# Altium footprint library STM32H743IIT6.PcbLib: 5 footprints
Each footprint in its own frame and in the unit in brackets; x right, y up, seen from the top. Pads: shape width x height; smd on the part's side, far side on the other; paste and mask are expansions set on the pad; w line width, h text height; cw(c..) or ccw(c..) is an arc to the next point about the centre after c.
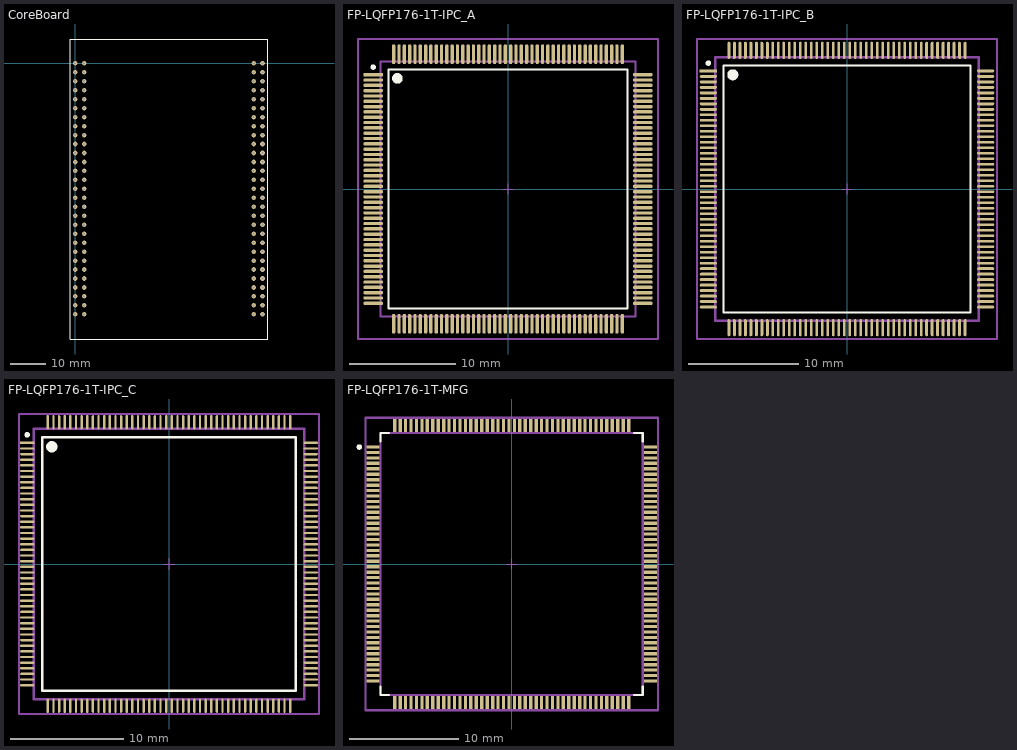
[diagram p0: the footprints below, top view; thin cyan lines are the x and y axes]

## CoreBoard [mm]
via 2.54,-71.12 diameter 1.3 hole 0.6
via 2.54,-71.12 diameter 1.3 hole 0.6
via 2.54,-71.12 diameter 1.3 hole 0.6
via 2.54,-71.12 diameter 1.3 hole 0.6
via 2.54,0 diameter 1.3 hole 0.6
via 2.54,-2.54 diameter 1.3 hole 0.6
via 2.54,0 diameter 1.3 hole 0.6
via 2.54,-2.54 diameter 1.3 hole 0.6
via 2.54,-2.54 diameter 1.3 hole 0.6
via 2.54,-2.54 diameter 1.3 hole 0.6
via 2.54,0 diameter 1.3 hole 0.6
via 2.54,-7.62 diameter 1.3 hole 0.6
via 2.54,-7.62 diameter 1.3 hole 0.6
via 2.54,-7.62 diameter 1.3 hole 0.6
via 2.54,-7.62 diameter 1.3 hole 0.6
via 2.54,-5.08 diameter 1.3 hole 0.6
via 2.54,-5.08 diameter 1.3 hole 0.6
via 2.54,0 diameter 1.3 hole 0.6
via 2.54,-60.96 diameter 1.3 hole 0.6
via 2.54,-5.08 diameter 1.3 hole 0.6
via 2.54,-5.08 diameter 1.3 hole 0.6
via 2.54,-12.7 diameter 1.3 hole 0.6
via 2.54,-12.7 diameter 1.3 hole 0.6
via 2.54,-12.7 diameter 1.3 hole 0.6
via 2.54,-12.7 diameter 1.3 hole 0.6
via 2.54,-10.16 diameter 1.3 hole 0.6
via 2.54,-10.16 diameter 1.3 hole 0.6
via 2.54,-10.16 diameter 1.3 hole 0.6
via 2.54,-10.16 diameter 1.3 hole 0.6
via 2.54,-53.34 diameter 1.3 hole 0.6
via 2.54,-53.34 diameter 1.3 hole 0.6
via 2.54,-53.34 diameter 1.3 hole 0.6
via 2.54,-53.34 diameter 1.3 hole 0.6
via 2.54,-58.42 diameter 1.3 hole 0.6
via 2.54,-55.88 diameter 1.3 hole 0.6
via 2.54,-55.88 diameter 1.3 hole 0.6
via 2.54,-55.88 diameter 1.3 hole 0.6
via 2.54,-55.88 diameter 1.3 hole 0.6
via 2.54,-43.18 diameter 1.3 hole 0.6
via 2.54,-48.26 diameter 1.3 hole 0.6
via 2.54,-45.72 diameter 1.3 hole 0.6
via 2.54,-45.72 diameter 1.3 hole 0.6
via 2.54,-48.26 diameter 1.3 hole 0.6
via 2.54,-48.26 diameter 1.3 hole 0.6
via 2.54,-48.26 diameter 1.3 hole 0.6
via 2.54,-45.72 diameter 1.3 hole 0.6
via 2.54,-45.72 diameter 1.3 hole 0.6
via 2.54,-50.8 diameter 1.3 hole 0.6
via 2.54,-50.8 diameter 1.3 hole 0.6
via 2.54,-50.8 diameter 1.3 hole 0.6
via 2.54,-50.8 diameter 1.3 hole 0.6
via 2.54,-43.18 diameter 1.3 hole 0.6
via 2.54,-43.18 diameter 1.3 hole 0.6
via 2.54,-43.18 diameter 1.3 hole 0.6
via 2.54,-40.64 diameter 1.3 hole 0.6
via 2.54,-40.64 diameter 1.3 hole 0.6
via 2.54,-40.64 diameter 1.3 hole 0.6
via 2.54,-40.64 diameter 1.3 hole 0.6
via 2.54,-27.94 diameter 1.3 hole 0.6
via 2.54,-22.86 diameter 1.3 hole 0.6
via 2.54,-22.86 diameter 1.3 hole 0.6
via 2.54,-22.86 diameter 1.3 hole 0.6
via 2.54,-22.86 diameter 1.3 hole 0.6
via 2.54,-25.4 diameter 1.3 hole 0.6
via 2.54,-27.94 diameter 1.3 hole 0.6
via 2.54,-27.94 diameter 1.3 hole 0.6
via 2.54,-25.4 diameter 1.3 hole 0.6
via 2.54,-27.94 diameter 1.3 hole 0.6
via 2.54,-25.4 diameter 1.3 hole 0.6
via 2.54,-25.4 diameter 1.3 hole 0.6
via 2.54,-17.78 diameter 1.3 hole 0.6
via 2.54,-15.24 diameter 1.3 hole 0.6
via 2.54,-15.24 diameter 1.3 hole 0.6
via 2.54,-15.24 diameter 1.3 hole 0.6
via 0,-15.24 diameter 1.3 hole 0.6
via 0,-15.24 diameter 1.3 hole 0.6
via 0,-15.24 diameter 1.3 hole 0.6
via 0,-15.24 diameter 1.3 hole 0.6
via 2.54,-17.78 diameter 1.3 hole 0.6
via 2.54,-17.78 diameter 1.3 hole 0.6
via 2.54,-17.78 diameter 1.3 hole 0.6
via 2.54,-15.24 diameter 1.3 hole 0.6
via 2.54,-20.32 diameter 1.3 hole 0.6
via 0,-20.32 diameter 1.3 hole 0.6
via 2.54,-20.32 diameter 1.3 hole 0.6
via 0,-20.32 diameter 1.3 hole 0.6
via 0,-20.32 diameter 1.3 hole 0.6
via 0,-20.32 diameter 1.3 hole 0.6
via 2.54,-20.32 diameter 1.3 hole 0.6
via 2.54,-20.32 diameter 1.3 hole 0.6
via 2.54,-30.48 diameter 1.3 hole 0.6
via 2.54,-33.02 diameter 1.3 hole 0.6
via 2.54,-33.02 diameter 1.3 hole 0.6
via 2.54,-33.02 diameter 1.3 hole 0.6
via 2.54,-33.02 diameter 1.3 hole 0.6
via 2.54,-30.48 diameter 1.3 hole 0.6
via 2.54,-30.48 diameter 1.3 hole 0.6
via 2.54,-30.48 diameter 1.3 hole 0.6
via 2.54,-38.1 diameter 1.3 hole 0.6
via 2.54,-38.1 diameter 1.3 hole 0.6
via 2.54,-35.56 diameter 1.3 hole 0.6
via 2.54,-35.56 diameter 1.3 hole 0.6
via 2.54,-35.56 diameter 1.3 hole 0.6
via 0,-38.1 diameter 1.3 hole 0.6
via 0,-38.1 diameter 1.3 hole 0.6
via 0,-38.1 diameter 1.3 hole 0.6
via 2.54,-38.1 diameter 1.3 hole 0.6
via 2.54,-38.1 diameter 1.3 hole 0.6
via 2.54,-35.56 diameter 1.3 hole 0.6
via 0,-58.42 diameter 1.3 hole 0.6
via 0,-60.96 diameter 1.3 hole 0.6
via 0,-60.96 diameter 1.3 hole 0.6
via 0,-58.42 diameter 1.3 hole 0.6
via 0,-58.42 diameter 1.3 hole 0.6
via 0,-60.96 diameter 1.3 hole 0.6
via 0,-60.96 diameter 1.3 hole 0.6
via 0,-58.42 diameter 1.3 hole 0.6
via 0,-43.18 diameter 1.3 hole 0.6
via 0,-40.64 diameter 1.3 hole 0.6
via 0,-40.64 diameter 1.3 hole 0.6
via 0,-43.18 diameter 1.3 hole 0.6
via 0,-40.64 diameter 1.3 hole 0.6
via 0,-43.18 diameter 1.3 hole 0.6
via 0,-43.18 diameter 1.3 hole 0.6
via 0,-40.64 diameter 1.3 hole 0.6
via 0,0 diameter 1.3 hole 0.6
via 0,-2.54 diameter 1.3 hole 0.6
via 0,-2.54 diameter 1.3 hole 0.6
via 0,-2.54 diameter 1.3 hole 0.6
via 0,0 diameter 1.3 hole 0.6
via 0,-2.54 diameter 1.3 hole 0.6
via 0,0 diameter 1.3 hole 0.6
via 0,0 diameter 1.3 hole 0.6
via 0,-17.78 diameter 1.3 hole 0.6
via 0,-17.78 diameter 1.3 hole 0.6
via 0,-17.78 diameter 1.3 hole 0.6
via 0,-17.78 diameter 1.3 hole 0.6
via 0,-50.8 diameter 1.3 hole 0.6
via 0,-50.8 diameter 1.3 hole 0.6
via 0,-50.8 diameter 1.3 hole 0.6
via 0,-50.8 diameter 1.3 hole 0.6
via 0,-22.86 diameter 1.3 hole 0.6
via 0,-35.56 diameter 1.3 hole 0.6
via 0,-38.1 diameter 1.3 hole 0.6
via 0,-35.56 diameter 1.3 hole 0.6
via 0,-22.86 diameter 1.3 hole 0.6
via 0,-22.86 diameter 1.3 hole 0.6
via 0,-33.02 diameter 1.3 hole 0.6
via 0,-33.02 diameter 1.3 hole 0.6
via 0,-35.56 diameter 1.3 hole 0.6
via 0,-33.02 diameter 1.3 hole 0.6
via 0,-33.02 diameter 1.3 hole 0.6
via 0,-35.56 diameter 1.3 hole 0.6
via 0,-22.86 diameter 1.3 hole 0.6
via 0,-12.7 diameter 1.3 hole 0.6
via 0,-10.16 diameter 1.3 hole 0.6
via 0,-10.16 diameter 1.3 hole 0.6
via 0,-10.16 diameter 1.3 hole 0.6
via 0,-10.16 diameter 1.3 hole 0.6
via 0,-12.7 diameter 1.3 hole 0.6
via 0,-12.7 diameter 1.3 hole 0.6
via 0,-12.7 diameter 1.3 hole 0.6
via 0,-27.94 diameter 1.3 hole 0.6
via 0,-25.4 diameter 1.3 hole 0.6
via 0,-25.4 diameter 1.3 hole 0.6
via 0,-27.94 diameter 1.3 hole 0.6
via 0,-25.4 diameter 1.3 hole 0.6
via 0,-27.94 diameter 1.3 hole 0.6
via 0,-27.94 diameter 1.3 hole 0.6
via 0,-25.4 diameter 1.3 hole 0.6
via 0,-53.34 diameter 1.3 hole 0.6
via 0,-53.34 diameter 1.3 hole 0.6
via 0,-53.34 diameter 1.3 hole 0.6
via 0,-53.34 diameter 1.3 hole 0.6
via 0,-55.88 diameter 1.3 hole 0.6
via 0,-55.88 diameter 1.3 hole 0.6
via 0,-55.88 diameter 1.3 hole 0.6
via 0,-55.88 diameter 1.3 hole 0.6
via 0,-66.04 diameter 1.3 hole 0.6
via 0,-63.5 diameter 1.3 hole 0.6
via 0,-66.04 diameter 1.3 hole 0.6
via 0,-63.5 diameter 1.3 hole 0.6
via 0,-63.5 diameter 1.3 hole 0.6
via 0,-66.04 diameter 1.3 hole 0.6
via 0,-66.04 diameter 1.3 hole 0.6
via 0,-63.5 diameter 1.3 hole 0.6
via 0,-45.72 diameter 1.3 hole 0.6
via 0,-45.72 diameter 1.3 hole 0.6
via 0,-48.26 diameter 1.3 hole 0.6
via 0,-48.26 diameter 1.3 hole 0.6
via 0,-48.26 diameter 1.3 hole 0.6
via 0,-45.72 diameter 1.3 hole 0.6
via 0,-45.72 diameter 1.3 hole 0.6
via 0,-48.26 diameter 1.3 hole 0.6
via 0,-5.08 diameter 1.3 hole 0.6
via 0,-5.08 diameter 1.3 hole 0.6
via 0,-5.08 diameter 1.3 hole 0.6
via 0,-5.08 diameter 1.3 hole 0.6
via 0,-7.62 diameter 1.3 hole 0.6
via 0,-7.62 diameter 1.3 hole 0.6
via 0,-7.62 diameter 1.3 hole 0.6
via 0,-7.62 diameter 1.3 hole 0.6
via 0,-30.48 diameter 1.3 hole 0.6
via 0,-30.48 diameter 1.3 hole 0.6
via 0,-30.48 diameter 1.3 hole 0.6
via 0,-30.48 diameter 1.3 hole 0.6
via 0,-68.58 diameter 1.3 hole 0.6
via 0,-71.12 diameter 1.3 hole 0.6
via 0,-71.12 diameter 1.3 hole 0.6
via 0,-68.58 diameter 1.3 hole 0.6
via 0,-68.58 diameter 1.3 hole 0.6
via 0,-68.58 diameter 1.3 hole 0.6
via 0,-71.12 diameter 1.3 hole 0.6
via 0,-71.12 diameter 1.3 hole 0.6
via 2.54,-63.5 diameter 1.3 hole 0.6
via 2.54,-58.42 diameter 1.3 hole 0.6
via 2.54,-63.5 diameter 1.3 hole 0.6
via 2.54,-58.42 diameter 1.3 hole 0.6
via 2.54,-63.5 diameter 1.3 hole 0.6
via 2.54,-60.96 diameter 1.3 hole 0.6
via 2.54,-60.96 diameter 1.3 hole 0.6
via 2.54,-58.42 diameter 1.3 hole 0.6
via 2.54,-63.5 diameter 1.3 hole 0.6
via 2.54,-60.96 diameter 1.3 hole 0.6
via 2.54,-66.04 diameter 1.3 hole 0.6
via 2.54,-66.04 diameter 1.3 hole 0.6
via 2.54,-66.04 diameter 1.3 hole 0.6
via 2.54,-66.04 diameter 1.3 hole 0.6
via 2.54,-68.58 diameter 1.3 hole 0.6
via 2.54,-68.58 diameter 1.3 hole 0.6
via 2.54,-68.58 diameter 1.3 hole 0.6
via 2.54,-68.58 diameter 1.3 hole 0.6
via 50.56,-5.08 diameter 1.3 hole 0.6
via 50.56,-5.08 diameter 1.3 hole 0.6
via 53.1,0 diameter 1.3 hole 0.6
via 53.1,-2.54 diameter 1.3 hole 0.6
via 50.56,0 diameter 1.3 hole 0.6
via 50.56,-2.54 diameter 1.3 hole 0.6
via 50.56,0 diameter 1.3 hole 0.6
via 53.1,0 diameter 1.3 hole 0.6
via 50.56,-2.54 diameter 1.3 hole 0.6
via 53.1,-2.54 diameter 1.3 hole 0.6
via 50.56,-60.96 diameter 1.3 hole 0.6
via 53.1,-60.96 diameter 1.3 hole 0.6
via 50.56,-60.96 diameter 1.3 hole 0.6
via 50.56,-66.04 diameter 1.3 hole 0.6
via 53.1,-66.04 diameter 1.3 hole 0.6
via 50.56,-63.5 diameter 1.3 hole 0.6
via 50.56,-66.04 diameter 1.3 hole 0.6
via 53.1,-63.5 diameter 1.3 hole 0.6
via 53.1,-66.04 diameter 1.3 hole 0.6
via 50.56,-63.5 diameter 1.3 hole 0.6
via 53.1,-60.96 diameter 1.3 hole 0.6
via 53.1,-63.5 diameter 1.3 hole 0.6
via 50.56,-10.16 diameter 1.3 hole 0.6
via 50.56,-12.7 diameter 1.3 hole 0.6
via 50.56,-7.62 diameter 1.3 hole 0.6
via 50.56,-12.7 diameter 1.3 hole 0.6
via 50.56,-10.16 diameter 1.3 hole 0.6
via 50.56,-7.62 diameter 1.3 hole 0.6
via 53.1,-12.7 diameter 1.3 hole 0.6
via 53.1,-12.7 diameter 1.3 hole 0.6
via 53.1,-10.16 diameter 1.3 hole 0.6
via 53.1,-5.08 diameter 1.3 hole 0.6
via 53.1,-5.08 diameter 1.3 hole 0.6
via 53.1,-7.62 diameter 1.3 hole 0.6
via 53.1,-10.16 diameter 1.3 hole 0.6
via 53.1,-7.62 diameter 1.3 hole 0.6
via 50.56,-27.94 diameter 1.3 hole 0.6
via 50.56,-27.94 diameter 1.3 hole 0.6
via 50.56,-33.02 diameter 1.3 hole 0.6
via 50.56,-30.48 diameter 1.3 hole 0.6
via 50.56,-30.48 diameter 1.3 hole 0.6
via 53.1,-33.02 diameter 1.3 hole 0.6
via 53.1,-30.48 diameter 1.3 hole 0.6
via 53.1,-27.94 diameter 1.3 hole 0.6
via 53.1,-30.48 diameter 1.3 hole 0.6
via 53.1,-27.94 diameter 1.3 hole 0.6
via 50.56,-33.02 diameter 1.3 hole 0.6
via 53.1,-33.02 diameter 1.3 hole 0.6
via 50.56,-15.24 diameter 1.3 hole 0.6
via 53.1,-71.12 diameter 1.3 hole 0.6
via 50.56,-71.12 diameter 1.3 hole 0.6
via 50.56,-71.12 diameter 1.3 hole 0.6
via 50.56,-15.24 diameter 1.3 hole 0.6
via 50.56,-17.78 diameter 1.3 hole 0.6
via 50.56,-20.32 diameter 1.3 hole 0.6
via 50.56,-17.78 diameter 1.3 hole 0.6
via 53.1,-15.24 diameter 1.3 hole 0.6
via 53.1,-17.78 diameter 1.3 hole 0.6
via 53.1,-15.24 diameter 1.3 hole 0.6
via 53.1,-20.32 diameter 1.3 hole 0.6
via 53.1,-17.78 diameter 1.3 hole 0.6
via 53.1,-71.12 diameter 1.3 hole 0.6
via 50.56,-20.32 diameter 1.3 hole 0.6
via 53.1,-20.32 diameter 1.3 hole 0.6
via 50.56,-45.72 diameter 1.3 hole 0.6
via 50.56,-45.72 diameter 1.3 hole 0.6
via 50.56,-48.26 diameter 1.3 hole 0.6
via 50.56,-25.4 diameter 1.3 hole 0.6
via 50.56,-22.86 diameter 1.3 hole 0.6
via 50.56,-25.4 diameter 1.3 hole 0.6
via 50.56,-35.56 diameter 1.3 hole 0.6
via 50.56,-35.56 diameter 1.3 hole 0.6
via 50.56,-43.18 diameter 1.3 hole 0.6
via 50.56,-38.1 diameter 1.3 hole 0.6
via 50.56,-43.18 diameter 1.3 hole 0.6
via 50.56,-40.64 diameter 1.3 hole 0.6
via 50.56,-38.1 diameter 1.3 hole 0.6
via 50.56,-40.64 diameter 1.3 hole 0.6
via 50.56,-48.26 diameter 1.3 hole 0.6
via 50.56,-22.86 diameter 1.3 hole 0.6
via 53.1,-48.26 diameter 1.3 hole 0.6
via 50.56,-50.8 diameter 1.3 hole 0.6
via 53.1,-68.58 diameter 1.3 hole 0.6
via 50.56,-68.58 diameter 1.3 hole 0.6
via 50.56,-68.58 diameter 1.3 hole 0.6
via 53.1,-68.58 diameter 1.3 hole 0.6
via 53.1,-45.72 diameter 1.3 hole 0.6
via 53.1,-50.8 diameter 1.3 hole 0.6
via 53.1,-50.8 diameter 1.3 hole 0.6
via 53.1,-45.72 diameter 1.3 hole 0.6
via 50.56,-50.8 diameter 1.3 hole 0.6
via 53.1,-48.26 diameter 1.3 hole 0.6
via 53.1,-35.56 diameter 1.3 hole 0.6
via 53.1,-35.56 diameter 1.3 hole 0.6
via 53.1,-22.86 diameter 1.3 hole 0.6
via 53.1,-22.86 diameter 1.3 hole 0.6
via 53.1,-25.4 diameter 1.3 hole 0.6
via 53.1,-25.4 diameter 1.3 hole 0.6
via 53.1,-40.64 diameter 1.3 hole 0.6
via 53.1,-38.1 diameter 1.3 hole 0.6
via 53.1,-43.18 diameter 1.3 hole 0.6
via 53.1,-43.18 diameter 1.3 hole 0.6
via 53.1,-38.1 diameter 1.3 hole 0.6
via 53.1,-40.64 diameter 1.3 hole 0.6
via 50.56,-53.34 diameter 1.3 hole 0.6
via 50.56,-55.88 diameter 1.3 hole 0.6
via 53.1,-55.88 diameter 1.3 hole 0.6
via 50.56,-58.42 diameter 1.3 hole 0.6
via 50.56,-53.34 diameter 1.3 hole 0.6
via 53.1,-53.34 diameter 1.3 hole 0.6
via 50.56,-58.42 diameter 1.3 hole 0.6
via 53.1,-58.42 diameter 1.3 hole 0.6
via 53.1,-55.88 diameter 1.3 hole 0.6
via 53.1,-58.42 diameter 1.3 hole 0.6
via 50.56,-55.88 diameter 1.3 hole 0.6
via 53.1,-53.34 diameter 1.3 hole 0.6
Top Overlay:
  lines w0.254: -1.4,-78.1 54.6,-78.1 54.6,6.9 -1.4,6.9 -1.4,-78.1

## FP-LQFP176-1T-IPC_A [mm]
pads (176):
  rect 1.858x0.312 smd paste+0 mask+0: 1(-12.677,10.75)
  rrect100% 1.858x0.312 smd paste+0 mask+0: 2(-12.677,10.25) 3(-12.677,9.75) 4(-12.677,9.25) 5(-12.677,8.75) 6(-12.677,8.25) 7(-12.677,7.75) 8(-12.677,7.25) 9(-12.677,6.75) 10(-12.677,6.25) 11(-12.677,5.75) 12(-12.677,5.25) 13(-12.677,4.75) 14(-12.677,4.25) 15(-12.677,3.75) 16(-12.677,3.25) 17(-12.677,2.75) 18(-12.677,2.25) 19(-12.677,1.75) 20(-12.677,1.25) 21(-12.677,0.75) 22(-12.677,0.25) 23(-12.677,-0.25) 24(-12.677,-0.75) 25(-12.677,-1.25) 26(-12.677,-1.75) 27(-12.677,-2.25) 28(-12.677,-2.75) 29(-12.677,-3.25) 30(-12.677,-3.75) 31(-12.677,-4.25) 32(-12.677,-4.75) 33(-12.677,-5.25) 34(-12.677,-5.75) 35(-12.677,-6.25) 36(-12.677,-6.75) 37(-12.677,-7.25) 38(-12.677,-7.75) 39(-12.677,-8.25) 40(-12.677,-8.75) 41(-12.677,-9.25) 42(-12.677,-9.75) 43(-12.677,-10.25) 44(-12.677,-10.75) 89(12.677,-10.75) 90(12.677,-10.25) 91(12.677,-9.75) 92(12.677,-9.25) 93(12.677,-8.75) 94(12.677,-8.25) 95(12.677,-7.75) 96(12.677,-7.25) 97(12.677,-6.75) 98(12.677,-6.25) 99(12.677,-5.75) 100(12.677,-5.25) 101(12.677,-4.75) 102(12.677,-4.25) 103(12.677,-3.75) 104(12.677,-3.25) 105(12.677,-2.75) 106(12.677,-2.25) 107(12.677,-1.75) 108(12.677,-1.25) 109(12.677,-0.75) 110(12.677,-0.25) 111(12.677,0.25) 112(12.677,0.75) 113(12.677,1.25) 114(12.677,1.75) 115(12.677,2.25) 116(12.677,2.75) 117(12.677,3.25) 118(12.677,3.75) 119(12.677,4.25) 120(12.677,4.75) 121(12.677,5.25) 122(12.677,5.75) 123(12.677,6.25) 124(12.677,6.75) 125(12.677,7.25) 126(12.677,7.75) 127(12.677,8.25) 128(12.677,8.75) 129(12.677,9.25) 130(12.677,9.75) 131(12.677,10.25) 132(12.677,10.75)
  rrect100% 0.312x1.858 smd paste+0 mask+0: 45(-10.75,-12.677) 46(-10.25,-12.677) 47(-9.75,-12.677) 48(-9.25,-12.677) 49(-8.75,-12.677) 50(-8.25,-12.677) 51(-7.75,-12.677) 52(-7.25,-12.677) 53(-6.75,-12.677) 54(-6.25,-12.677) 55(-5.75,-12.677) 56(-5.25,-12.677) 57(-4.75,-12.677) 58(-4.25,-12.677) 59(-3.75,-12.677) 60(-3.25,-12.677) 61(-2.75,-12.677) 62(-2.25,-12.677) 63(-1.75,-12.677) 64(-1.25,-12.677) 65(-0.75,-12.677) 66(-0.25,-12.677) 67(0.25,-12.677) 68(0.75,-12.677) 69(1.25,-12.677) 70(1.75,-12.677) 71(2.25,-12.677) 72(2.75,-12.677) 73(3.25,-12.677) 74(3.75,-12.677) 75(4.25,-12.677) 76(4.75,-12.677) 77(5.25,-12.677) 78(5.75,-12.677) 79(6.25,-12.677) 80(6.75,-12.677) 81(7.25,-12.677) 82(7.75,-12.677) 83(8.25,-12.677) 84(8.75,-12.677) 85(9.25,-12.677) 86(9.75,-12.677) 87(10.25,-12.677) 88(10.75,-12.677) 133(10.75,12.677) 134(10.25,12.677) 135(9.75,12.677) 136(9.25,12.677) 137(8.75,12.677) 138(8.25,12.677) 139(7.75,12.677) 140(7.25,12.677) 141(6.75,12.677) 142(6.25,12.677) 143(5.75,12.677) 144(5.25,12.677) 145(4.75,12.677) 146(4.25,12.677) 147(3.75,12.677) 148(3.25,12.677) 149(2.75,12.677) 150(2.25,12.677) 151(1.75,12.677) 152(1.25,12.677) 153(0.75,12.677) 154(0.25,12.677) 155(-0.25,12.677) 156(-0.75,12.677) 157(-1.25,12.677) 158(-1.75,12.677) 159(-2.25,12.677) 160(-2.75,12.677) 161(-3.25,12.677) 162(-3.75,12.677) 163(-4.25,12.677) 164(-4.75,12.677) 165(-5.25,12.677) 166(-5.75,12.677) 167(-6.25,12.677) 168(-6.75,12.677) 169(-7.25,12.677) 170(-7.75,12.677) 171(-8.25,12.677) 172(-8.75,12.677) 173(-9.25,12.677) 174(-9.75,12.677) 175(-10.25,12.677) 176(-10.75,12.677)
Top Overlay:
  circle w0.5: c-10.4,10.4 r0.25
  circle w0.25: c-12.677,11.46 r0.125
  lines w0.2: -11.25,-11.25 -11.25,11.25 11.25,11.25 11.25,-11.25 -11.25,-11.25
Top Assembly:
  lines w0.2: -14.106,-14.106 -14.106,14.106 14.106,14.106 14.106,-14.106 -14.106,-14.106
  text ".Designator" at 0,0 h1
Top 3D Body:
  lines w0.2: -12,-12 -12,12 12,12 12,-12 -12,-12
Top Courtyard:
  lines w0.2: -14.106,-14.106 -14.106,14.106 14.106,14.106 14.106,-14.106 -14.106,-14.106
Top Component Center:
  lines w0.1: -0.5,0 0.5,0 ; 0,-0.5 0,0.5
3D body "IC_STMicroelectronics_STM32H743IIT6_eec.STEP": height 0.25, standoff 0, extent -14.106,-14.106 14.106,14.106

## FP-LQFP176-1T-IPC_B [mm]
pads (176):
  rect 1.558x0.252 smd paste+0 mask+0: 1(-12.627,10.75)
  rrect100% 1.558x0.252 smd paste+0 mask+0: 2(-12.627,10.25) 3(-12.627,9.75) 4(-12.627,9.25) 5(-12.627,8.75) 6(-12.627,8.25) 7(-12.627,7.75) 8(-12.627,7.25) 9(-12.627,6.75) 10(-12.627,6.25) 11(-12.627,5.75) 12(-12.627,5.25) 13(-12.627,4.75) 14(-12.627,4.25) 15(-12.627,3.75) 16(-12.627,3.25) 17(-12.627,2.75) 18(-12.627,2.25) 19(-12.627,1.75) 20(-12.627,1.25) 21(-12.627,0.75) 22(-12.627,0.25) 23(-12.627,-0.25) 24(-12.627,-0.75) 25(-12.627,-1.25) 26(-12.627,-1.75) 27(-12.627,-2.25) 28(-12.627,-2.75) 29(-12.627,-3.25) 30(-12.627,-3.75) 31(-12.627,-4.25) 32(-12.627,-4.75) 33(-12.627,-5.25) 34(-12.627,-5.75) 35(-12.627,-6.25) 36(-12.627,-6.75) 37(-12.627,-7.25) 38(-12.627,-7.75) 39(-12.627,-8.25) 40(-12.627,-8.75) 41(-12.627,-9.25) 42(-12.627,-9.75) 43(-12.627,-10.25) 44(-12.627,-10.75) 89(12.627,-10.75) 90(12.627,-10.25) 91(12.627,-9.75) 92(12.627,-9.25) 93(12.627,-8.75) 94(12.627,-8.25) 95(12.627,-7.75) 96(12.627,-7.25) 97(12.627,-6.75) 98(12.627,-6.25) 99(12.627,-5.75) 100(12.627,-5.25) 101(12.627,-4.75) 102(12.627,-4.25) 103(12.627,-3.75) 104(12.627,-3.25) 105(12.627,-2.75) 106(12.627,-2.25) 107(12.627,-1.75) 108(12.627,-1.25) 109(12.627,-0.75) 110(12.627,-0.25) 111(12.627,0.25) 112(12.627,0.75) 113(12.627,1.25) 114(12.627,1.75) 115(12.627,2.25) 116(12.627,2.75) 117(12.627,3.25) 118(12.627,3.75) 119(12.627,4.25) 120(12.627,4.75) 121(12.627,5.25) 122(12.627,5.75) 123(12.627,6.25) 124(12.627,6.75) 125(12.627,7.25) 126(12.627,7.75) 127(12.627,8.25) 128(12.627,8.75) 129(12.627,9.25) 130(12.627,9.75) 131(12.627,10.25) 132(12.627,10.75)
  rrect100% 0.252x1.558 smd paste+0 mask+0: 45(-10.75,-12.627) 46(-10.25,-12.627) 47(-9.75,-12.627) 48(-9.25,-12.627) 49(-8.75,-12.627) 50(-8.25,-12.627) 51(-7.75,-12.627) 52(-7.25,-12.627) 53(-6.75,-12.627) 54(-6.25,-12.627) 55(-5.75,-12.627) 56(-5.25,-12.627) 57(-4.75,-12.627) 58(-4.25,-12.627) 59(-3.75,-12.627) 60(-3.25,-12.627) 61(-2.75,-12.627) 62(-2.25,-12.627) 63(-1.75,-12.627) 64(-1.25,-12.627) 65(-0.75,-12.627) 66(-0.25,-12.627) 67(0.25,-12.627) 68(0.75,-12.627) 69(1.25,-12.627) 70(1.75,-12.627) 71(2.25,-12.627) 72(2.75,-12.627) 73(3.25,-12.627) 74(3.75,-12.627) 75(4.25,-12.627) 76(4.75,-12.627) 77(5.25,-12.627) 78(5.75,-12.627) 79(6.25,-12.627) 80(6.75,-12.627) 81(7.25,-12.627) 82(7.75,-12.627) 83(8.25,-12.627) 84(8.75,-12.627) 85(9.25,-12.627) 86(9.75,-12.627) 87(10.25,-12.627) 88(10.75,-12.627) 133(10.75,12.627) 134(10.25,12.627) 135(9.75,12.627) 136(9.25,12.627) 137(8.75,12.627) 138(8.25,12.627) 139(7.75,12.627) 140(7.25,12.627) 141(6.75,12.627) 142(6.25,12.627) 143(5.75,12.627) 144(5.25,12.627) 145(4.75,12.627) 146(4.25,12.627) 147(3.75,12.627) 148(3.25,12.627) 149(2.75,12.627) 150(2.25,12.627) 151(1.75,12.627) 152(1.25,12.627) 153(0.75,12.627) 154(0.25,12.627) 155(-0.25,12.627) 156(-0.75,12.627) 157(-1.25,12.627) 158(-1.75,12.627) 159(-2.25,12.627) 160(-2.75,12.627) 161(-3.25,12.627) 162(-3.75,12.627) 163(-4.25,12.627) 164(-4.75,12.627) 165(-5.25,12.627) 166(-5.75,12.627) 167(-6.25,12.627) 168(-6.75,12.627) 169(-7.25,12.627) 170(-7.75,12.627) 171(-8.25,12.627) 172(-8.75,12.627) 173(-9.25,12.627) 174(-9.75,12.627) 175(-10.25,12.627) 176(-10.75,12.627)
Top Overlay:
  circle w0.25: c-12.627,11.46 r0.125
  circle w0.5: c-10.4,10.4 r0.25
  lines w0.2: -11.25,-11.25 11.25,-11.25 11.25,11.25 -11.25,11.25 -11.25,-11.25
Top Assembly:
  lines w0.2: -13.656,-13.656 13.656,-13.656 13.656,13.656 -13.656,13.656 -13.656,-13.656
  text ".Designator" at 0,0 h1
Top 3D Body:
  lines w0.2: -12,-12 12,-12 12,12 -12,12 -12,-12
Top Courtyard:
  lines w0.2: -13.656,-13.656 13.656,-13.656 13.656,13.656 -13.656,13.656 -13.656,-13.656
Top Component Center:
  lines w0.1: -0.5,0 0.5,0 ; 0,-0.5 0,0.5
3D body "IC_STMicroelectronics_STM32H743IIT6_eec.STEP": height 0.25, standoff 0, extent -13.656,-13.656 13.656,13.656

## FP-LQFP176-1T-IPC_C [mm]
pads (176):
  rect 1.258x0.212 smd paste+0 mask+0: 1(-12.577,10.75)
  rrect100% 1.258x0.212 smd paste+0 mask+0: 2(-12.577,10.25) 3(-12.577,9.75) 4(-12.577,9.25) 5(-12.577,8.75) 6(-12.577,8.25) 7(-12.577,7.75) 8(-12.577,7.25) 9(-12.577,6.75) 10(-12.577,6.25) 11(-12.577,5.75) 12(-12.577,5.25) 13(-12.577,4.75) 14(-12.577,4.25) 15(-12.577,3.75) 16(-12.577,3.25) 17(-12.577,2.75) 18(-12.577,2.25) 19(-12.577,1.75) 20(-12.577,1.25) 21(-12.577,0.75) 22(-12.577,0.25) 23(-12.577,-0.25) 24(-12.577,-0.75) 25(-12.577,-1.25) 26(-12.577,-1.75) 27(-12.577,-2.25) 28(-12.577,-2.75) 29(-12.577,-3.25) 30(-12.577,-3.75) 31(-12.577,-4.25) 32(-12.577,-4.75) 33(-12.577,-5.25) 34(-12.577,-5.75) 35(-12.577,-6.25) 36(-12.577,-6.75) 37(-12.577,-7.25) 38(-12.577,-7.75) 39(-12.577,-8.25) 40(-12.577,-8.75) 41(-12.577,-9.25) 42(-12.577,-9.75) 43(-12.577,-10.25) 44(-12.577,-10.75) 89(12.577,-10.75) 90(12.577,-10.25) 91(12.577,-9.75) 92(12.577,-9.25) 93(12.577,-8.75) 94(12.577,-8.25) 95(12.577,-7.75) 96(12.577,-7.25) 97(12.577,-6.75) 98(12.577,-6.25) 99(12.577,-5.75) 100(12.577,-5.25) 101(12.577,-4.75) 102(12.577,-4.25) 103(12.577,-3.75) 104(12.577,-3.25) 105(12.577,-2.75) 106(12.577,-2.25) 107(12.577,-1.75) 108(12.577,-1.25) 109(12.577,-0.75) 110(12.577,-0.25) 111(12.577,0.25) 112(12.577,0.75) 113(12.577,1.25) 114(12.577,1.75) 115(12.577,2.25) 116(12.577,2.75) 117(12.577,3.25) 118(12.577,3.75) 119(12.577,4.25) 120(12.577,4.75) 121(12.577,5.25) 122(12.577,5.75) 123(12.577,6.25) 124(12.577,6.75) 125(12.577,7.25) 126(12.577,7.75) 127(12.577,8.25) 128(12.577,8.75) 129(12.577,9.25) 130(12.577,9.75) 131(12.577,10.25) 132(12.577,10.75)
  rrect100% 0.212x1.258 smd paste+0 mask+0: 45(-10.75,-12.577) 46(-10.25,-12.577) 47(-9.75,-12.577) 48(-9.25,-12.577) 49(-8.75,-12.577) 50(-8.25,-12.577) 51(-7.75,-12.577) 52(-7.25,-12.577) 53(-6.75,-12.577) 54(-6.25,-12.577) 55(-5.75,-12.577) 56(-5.25,-12.577) 57(-4.75,-12.577) 58(-4.25,-12.577) 59(-3.75,-12.577) 60(-3.25,-12.577) 61(-2.75,-12.577) 62(-2.25,-12.577) 63(-1.75,-12.577) 64(-1.25,-12.577) 65(-0.75,-12.577) 66(-0.25,-12.577) 67(0.25,-12.577) 68(0.75,-12.577) 69(1.25,-12.577) 70(1.75,-12.577) 71(2.25,-12.577) 72(2.75,-12.577) 73(3.25,-12.577) 74(3.75,-12.577) 75(4.25,-12.577) 76(4.75,-12.577) 77(5.25,-12.577) 78(5.75,-12.577) 79(6.25,-12.577) 80(6.75,-12.577) 81(7.25,-12.577) 82(7.75,-12.577) 83(8.25,-12.577) 84(8.75,-12.577) 85(9.25,-12.577) 86(9.75,-12.577) 87(10.25,-12.577) 88(10.75,-12.577) 133(10.75,12.577) 134(10.25,12.577) 135(9.75,12.577) 136(9.25,12.577) 137(8.75,12.577) 138(8.25,12.577) 139(7.75,12.577) 140(7.25,12.577) 141(6.75,12.577) 142(6.25,12.577) 143(5.75,12.577) 144(5.25,12.577) 145(4.75,12.577) 146(4.25,12.577) 147(3.75,12.577) 148(3.25,12.577) 149(2.75,12.577) 150(2.25,12.577) 151(1.75,12.577) 152(1.25,12.577) 153(0.75,12.577) 154(0.25,12.577) 155(-0.25,12.577) 156(-0.75,12.577) 157(-1.25,12.577) 158(-1.75,12.577) 159(-2.25,12.577) 160(-2.75,12.577) 161(-3.25,12.577) 162(-3.75,12.577) 163(-4.25,12.577) 164(-4.75,12.577) 165(-5.25,12.577) 166(-5.75,12.577) 167(-6.25,12.577) 168(-6.75,12.577) 169(-7.25,12.577) 170(-7.75,12.577) 171(-8.25,12.577) 172(-8.75,12.577) 173(-9.25,12.577) 174(-9.75,12.577) 175(-10.25,12.577) 176(-10.75,12.577)
Top Overlay:
  circle w0.25: c-12.577,11.46 r0.125
  circle w0.5: c-10.4,10.4 r0.25
  lines w0.2: -11.25,-11.25 11.25,-11.25 11.25,11.25 -11.25,11.25 -11.25,-11.25
Top Assembly:
  lines w0.2: -13.306,-13.306 13.306,-13.306 13.306,13.306 -13.306,13.306 -13.306,-13.306
  text ".Designator" at 0,0 h1
Top 3D Body:
  lines w0.2: -12,-12 12,-12 12,12 -12,12 -12,-12
Top Courtyard:
  lines w0.2: -13.306,-13.306 13.306,-13.306 13.306,13.306 -13.306,13.306 -13.306,-13.306
Top Component Center:
  lines w0.1: -0.5,0 0.5,0 ; 0,-0.5 0,0.5
3D body "IC_STMicroelectronics_STM32H743IIT6_eec.STEP": height 0.25, standoff 0, extent -13.306,-13.306 13.306,13.306

## FP-LQFP176-1T-MFG [mm]
pads (176):
  rect 1.2x0.3 smd paste+0 mask+0: 1(-12.75,10.75) 2(-12.75,10.25) 3(-12.75,9.75) 4(-12.75,9.25) 5(-12.75,8.75) 6(-12.75,8.25) 7(-12.75,7.75) 8(-12.75,7.25) 9(-12.75,6.75) 10(-12.75,6.25) 11(-12.75,5.75) 12(-12.75,5.25) 13(-12.75,4.75) 14(-12.75,4.25) 15(-12.75,3.75) 16(-12.75,3.25) 17(-12.75,2.75) 18(-12.75,2.25) 19(-12.75,1.75) 20(-12.75,1.25) 21(-12.75,0.75) 22(-12.75,0.25) 23(-12.75,-0.25) 24(-12.75,-0.75) 25(-12.75,-1.25) 26(-12.75,-1.75) 27(-12.75,-2.25) 28(-12.75,-2.75) 29(-12.75,-3.25) 30(-12.75,-3.75) 31(-12.75,-4.25) 32(-12.75,-4.75) 33(-12.75,-5.25) 34(-12.75,-5.75) 35(-12.75,-6.25) 36(-12.75,-6.75) 37(-12.75,-7.25) 38(-12.75,-7.75) 39(-12.75,-8.25) 40(-12.75,-8.75) 41(-12.75,-9.25) 42(-12.75,-9.75) 43(-12.75,-10.25) 44(-12.75,-10.75) 89(12.75,-10.75) 90(12.75,-10.25) 91(12.75,-9.75) 92(12.75,-9.25) 93(12.75,-8.75) 94(12.75,-8.25) 95(12.75,-7.75) 96(12.75,-7.25) 97(12.75,-6.75) 98(12.75,-6.25) 99(12.75,-5.75) 100(12.75,-5.25) 101(12.75,-4.75) 102(12.75,-4.25) 103(12.75,-3.75) 104(12.75,-3.25) 105(12.75,-2.75) 106(12.75,-2.25) 107(12.75,-1.75) 108(12.75,-1.25) 109(12.75,-0.75) 110(12.75,-0.25) 111(12.75,0.25) 112(12.75,0.75) 113(12.75,1.25) 114(12.75,1.75) 115(12.75,2.25) 116(12.75,2.75) 117(12.75,3.25) 118(12.75,3.75) 119(12.75,4.25) 120(12.75,4.75) 121(12.75,5.25) 122(12.75,5.75) 123(12.75,6.25) 124(12.75,6.75) 125(12.75,7.25) 126(12.75,7.75) 127(12.75,8.25) 128(12.75,8.75) 129(12.75,9.25) 130(12.75,9.75) 131(12.75,10.25) 132(12.75,10.75)
  rect 0.3x1.2 smd paste+0 mask+0: 45(-10.75,-12.75) 46(-10.25,-12.75) 47(-9.75,-12.75) 48(-9.25,-12.75) 49(-8.75,-12.75) 50(-8.25,-12.75) 51(-7.75,-12.75) 52(-7.25,-12.75) 53(-6.75,-12.75) 54(-6.25,-12.75) 55(-5.75,-12.75) 56(-5.25,-12.75) 57(-4.75,-12.75) 58(-4.25,-12.75) 59(-3.75,-12.75) 60(-3.25,-12.75) 61(-2.75,-12.75) 62(-2.25,-12.75) 63(-1.75,-12.75) 64(-1.25,-12.75) 65(-0.75,-12.75) 66(-0.25,-12.75) 67(0.25,-12.75) 68(0.75,-12.75) 69(1.25,-12.75) 70(1.75,-12.75) 71(2.25,-12.75) 72(2.75,-12.75) 73(3.25,-12.75) 74(3.75,-12.75) 75(4.25,-12.75) 76(4.75,-12.75) 77(5.25,-12.75) 78(5.75,-12.75) 79(6.25,-12.75) 80(6.75,-12.75) 81(7.25,-12.75) 82(7.75,-12.75) 83(8.25,-12.75) 84(8.75,-12.75) 85(9.25,-12.75) 86(9.75,-12.75) 87(10.25,-12.75) 88(10.75,-12.75) 133(10.75,12.75) 134(10.25,12.75) 135(9.75,12.75) 136(9.25,12.75) 137(8.75,12.75) 138(8.25,12.75) 139(7.75,12.75) 140(7.25,12.75) 141(6.75,12.75) 142(6.25,12.75) 143(5.75,12.75) 144(5.25,12.75) 145(4.75,12.75) 146(4.25,12.75) 147(3.75,12.75) 148(3.25,12.75) 149(2.75,12.75) 150(2.25,12.75) 151(1.75,12.75) 152(1.25,12.75) 153(0.75,12.75) 154(0.25,12.75) 155(-0.25,12.75) 156(-0.75,12.75) 157(-1.25,12.75) 158(-1.75,12.75) 159(-2.25,12.75) 160(-2.75,12.75) 161(-3.25,12.75) 162(-3.75,12.75) 163(-4.25,12.75) 164(-4.75,12.75) 165(-5.25,12.75) 166(-5.75,12.75) 167(-6.25,12.75) 168(-6.75,12.75) 169(-7.25,12.75) 170(-7.75,12.75) 171(-8.25,12.75) 172(-8.75,12.75) 173(-9.25,12.75) 174(-9.75,12.75) 175(-10.25,12.75) 176(-10.75,12.75)
Top Overlay:
  circle w0.25: c-14,10.75 r0.125
  lines w0.2: -12.05,-11.275 -12.05,-12.05 -11.275,-12.05 ; -12.05,11.275 -12.05,12.05 -11.275,12.05 ; 11.275,-12.05 12.05,-12.05 12.05,-11.275 ; 11.275,12.05 12.05,12.05 12.05,11.275
Top Assembly:
  lines w0.2: -13.45,-13.45 13.45,-13.45 13.45,13.45 -13.45,13.45 -13.45,-13.45
  text ".Designator" at 0,0.188 h1
Top 3D Body:
  lines w0.2: -12.05,-12.05 12.05,-12.05 12.05,12.05 -12.05,12.05 -12.05,-12.05
Top Courtyard:
  lines w0.2: -13.45,-13.45 13.45,-13.45 13.45,13.45 -13.45,13.45 -13.45,-13.45
Top Component Center:
  lines w0.1: -0.5,0 0.5,0 ; 0,-0.5 0,0.5
3D body "IC_STMicroelectronics_STM32H743IIT6_eec.STEP": height 0.25, standoff 0, extent -13.45,-13.45 13.45,13.45